# EAGLE library part MODULE_MIKROBUS (library MikroBUS_baruc)
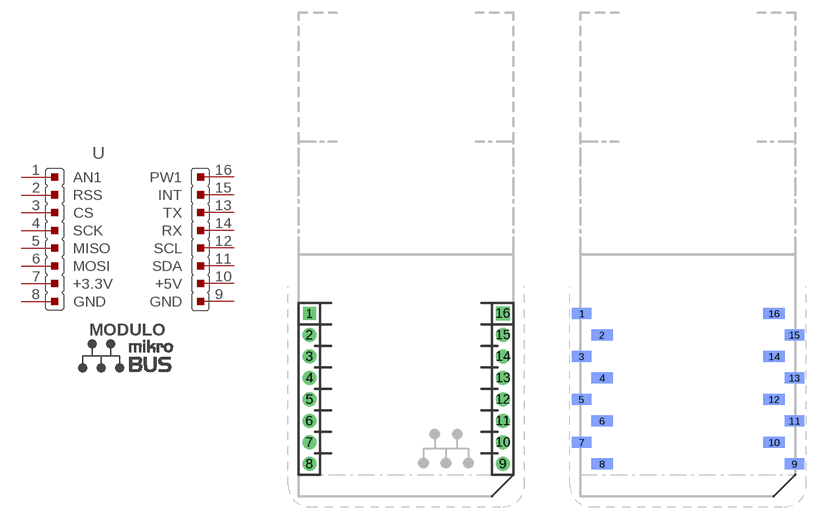
[diagram p2: symbol with the pads of MODULE_MIKROBUS; footprints MODULE_MIKROBUS, MODULE_MIKROBUS_SMD]

Designator prefix -

## MODULE_MIKROBUS  [MODULE_MIKROBUS]
1  AN1
2  RSS
3  CS
4  SCK
5  MISO
6  MOSI
7  +3.3V  pas
8  GND  pas
9  GND  pas
10  +5V  pas
11  SDA
12  SCL
13  TX
14  RX
15  INT
16  PW1

## MODULE_MIKROBUSSMD  [MODULE_MIKROBUS_SMD]
1  AN1
2  RSS
3  CS
4  SCK
5  MISO
6  MOSI
7  +3.3V  pas
8  GND  pas
9  GND  pas
10  +5V  pas
11  SDA
12  SCL
13  RX
14  TX
15  INT
16  PW1

## Footprint MODULE_MIKROBUS (pad centres in mm)
drill 1.016 square: 1 1.27,21.59
drill 1.016 pad 1.676: 2 1.27,19.05; 3 1.27,16.51; 4 1.27,13.97; 5 1.27,11.43; 6 1.27,8.89; 7 1.27,6.35; 8 1.27,3.81; 9 24.13,3.81; 10 24.13,6.35; 11 24.13,8.89; 12 24.13,11.43; 13 24.13,13.97; 14 24.13,16.51; 15 24.13,19.05
drill 1.016 pad 1.676 square: 16 24.13,21.59

## Footprint MODULE_MIKROBUS_SMD (pad centres in mm)
smd 2.286 x 1.27 bottom: 1 0.127,21.59; 3 0.127,16.51; 5 0.127,11.43; 7 0.127,6.35; 9 25.273,3.81; 11 25.273,8.89; 13 25.273,13.97; 15 25.273,19.05
smd 2.54 x 1.27 bottom: 2 2.54,19.05; 4 2.54,13.97; 6 2.54,8.89; 8 2.54,3.81; 10 22.86,6.35; 12 22.86,11.43; 14 22.86,16.51; 16 22.86,21.59